# Altium schematic symbol library LED.SchLib: 1 symbol
Pins are listed as number, name and electrical type; pins without a type are passive.

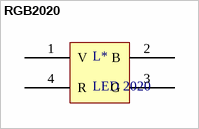
[diagram p0: symbol RGB2020]

## RGB2020
designator L*, comment LED 2020
footprint LED2020
pins: 1 V, 2 B, 3 G, 4 R